# Altium integrated library Energy Meter.IntLib: 1 symbol
Pins are listed as number, name and electrical type; pins without a type are passive.

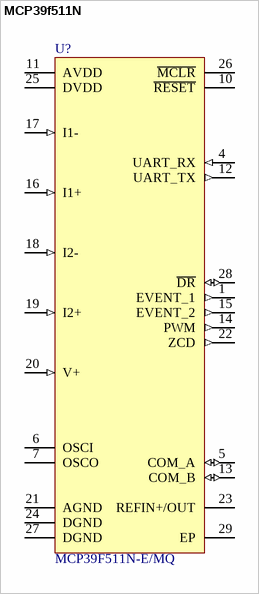
[diagram p0: symbol MCP39f511N]

## MCP39f511N
designator U?, comment MCP39F511N-E/MQ
IC PWR MONITOR 2CH 1PH 28QFN; Manufacturer: Microchip Technology; Current - Supply: 7mA; Voltage - Supply: 2.7V ~ 3.6V; Meter Type: Single Phase; Measurement Error: 0.1%; Voltage - I/O High: 3V; Voltage - I/O Low: 0.4V; Categories: PMIC - Energy Metering; Supplier 1: Digi-Key; Value: MCP39F511N-E/MQ; Operating Temperature: -40°C ~ 125°C; Manufacturer Part Number: MCP39F511N-E/MQ; Supplier Part Number 1: MCP39F511N-E/MQ-ND
footprint QFN5X5_MCP39F511N (QFN, 28-Leads, Body 5,00x5,00mm, Pitch 0,50mm, Thermal Pad 3,35x3,35mm, IPC Low Density)
pins: 1 EVENT_1 (out), 4 UART_RX (in), 5 COM_A (io), 6 OSCI, 7 OSCO, 10 ~{RESET} (power), 11 AVDD (power), 12 UART_TX (out), 13 COM_B (io), 14 PWM (out), 15 EVENT_2 (out), 16 I1+ (in), 17 I1- (in), 18 I2- (in), 19 I2+ (in), 20 V+ (in), 21 AGND, 22 ZCD (out), 23 REFIN+/OUT (power), 24 DGND, 25 DVDD (power), 26 ~{MCLR} (power), 27 DGND, 28 ~{DR} (io), 29 EP